# EAGLE library part DS620UT&R (library aurigaBot)
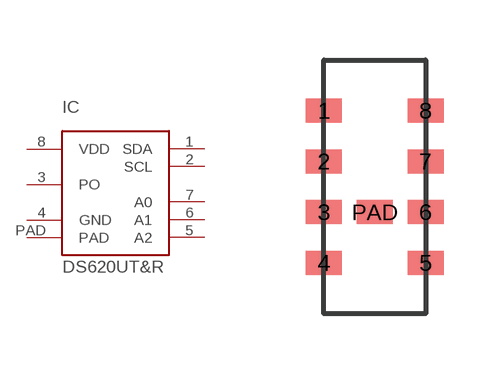
[diagram p7: symbol with the pads of USOP8; footprint USOP8]

Designator prefix IC

## DS620UT&R  [USOP8]
1  SDA
2  SCL
3  PO
4  GND  pwr
5  A2
6  A1
7  A0
8  VDD  pwr
PAD  PAD  pwr

## Footprint USOP8 (pad centres in mm)
smd 0.9 x 0.6: 1 -1.27,2.54; 2 -1.27,1.27; 3 -1.27,0; 4 -1.27,-1.27; 5 1.27,-1.27; 6 1.27,0; 7 1.27,1.27; 8 1.27,2.54; PAD 0,0